# Altium footprint library base_takas.PcbLib: 1 footprints
Each footprint in its own frame and in the unit in brackets; x right, y up, seen from the top. Pads: shape width x height; smd on the part's side, far side on the other; paste and mask are expansions set on the pad; w line width, h text height; cw(c..) or ccw(c..) is an arc to the next point about the centre after c.
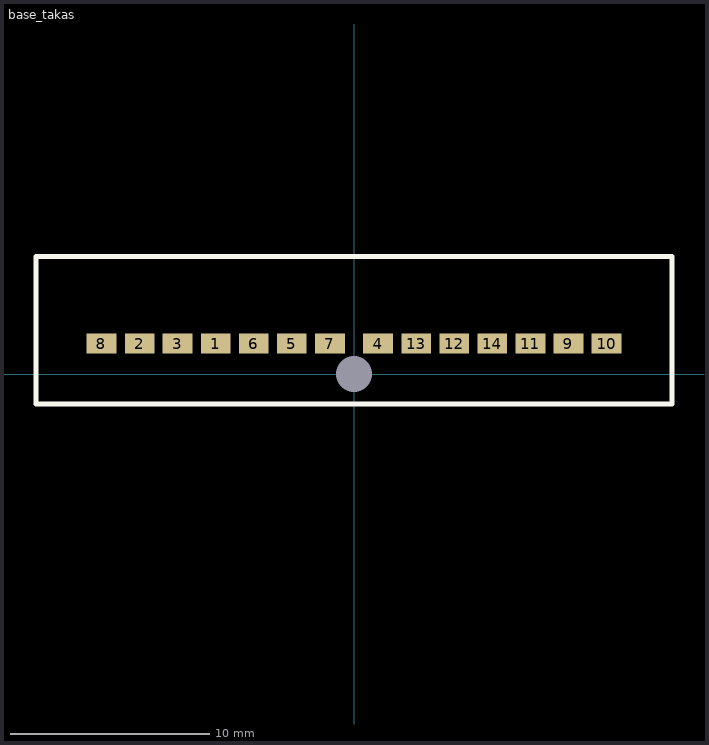
[diagram p0: the footprint, top view; thin cyan lines are the x and y axes]

## base_takas [mm]
pads (15):
  rect 1.5x1 all layers, no hole: 1(-6.956,1.524) 2(-10.775,1.524) 3(-8.87,1.524) 4(1.211,1.524) 5(-3.126,1.524) 6(-5.041,1.524) 7(-1.211,1.524) 8(-12.7,1.524) 9(10.785,1.524) 10(12.7,1.524) 11(8.87,1.524) 12(5.041,1.524) 13(3.126,1.524) 14(6.956,1.524)
  round 0 hole 1.8 square unplated: 1(0,0)
Top Overlay:
  lines w0.254: -16,-1.5 16,-1.5 16,5.9 -16,5.9 -16,-1.5
3D body: height 20, standoff -0.5, extent -13.97,-0.889 13.97,0.889
3D body: height 18, standoff 8, extent -13.97,0.889 -0.762,5.842
3D body: height 18, standoff 8, extent 0.762,0.889 13.97,5.842